# Altium schematic symbol library WRIS-RSKS.SchLib: 516 symbols (part 5 of 10)
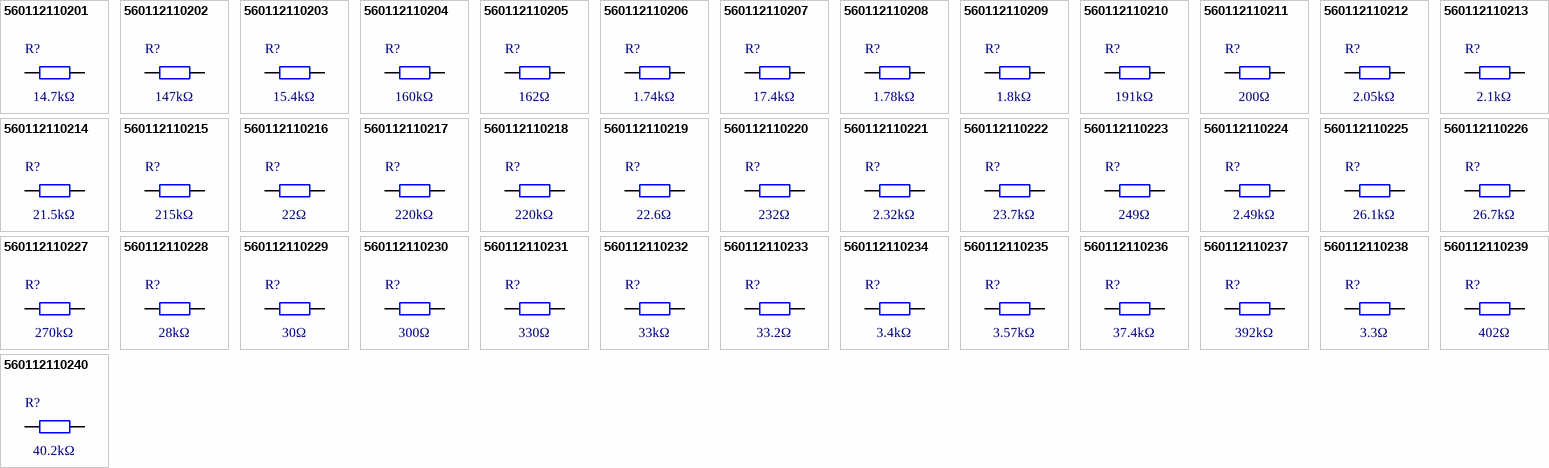
[diagram p16: symbols 560112110201 to 560112110240]

## 560112110221
designator R?, comment 2.32kΩ
WRIS-RSKS Thick Film Resistor, size 0402, 2.32kΩ, +/-1%, 100mW; Manufacturer Part Number: 560112110221; Manufacturer: Wurth Elektronik; Case/Size Code: 0402; Limiting Element Voltage: 50V; Temperature Coefficient of Resistance Min: -100ppm/°C; Temperature Coefficient of Resistance Max: 100ppm/°C; Category: Thick Film Resistors; Match Code: WRIS-RSKS; ComponentLink1Description: Website Link; ComponentLink1URL: https://www.we-online.com/redexpert/article/560112110221?ad; ComponentLink2Description: Datasheet Link; ComponentLink2URL: https://www.we-online.com/redexpert/spec/560112110221?ad; Mount: Surface Mount; Min Operating Temperature: -55°C; Max Operating Temperature: 155°C; Packaging: Tape and Reel; Length: 1mm; Width: 0.5mm; Height: 0.35mm; Rated Power: 100mW; Resistance: 2.32kΩ; Resistance Tolerance: +/-1%
footprint WRIS-RSKS_0402
pins: 1, 2

## 560112110222
designator R?, comment 23.7kΩ
WRIS-RSKS Thick Film Resistor, size 0402, 23.7kΩ, +/-1%, 100mW; Manufacturer Part Number: 560112110222; Manufacturer: Wurth Elektronik; Case/Size Code: 0402; Limiting Element Voltage: 50V; Temperature Coefficient of Resistance Min: -100ppm/°C; Temperature Coefficient of Resistance Max: 100ppm/°C; Category: Thick Film Resistors; Match Code: WRIS-RSKS; ComponentLink1Description: Website Link; ComponentLink1URL: https://www.we-online.com/redexpert/article/560112110222?ad; ComponentLink2Description: Datasheet Link; ComponentLink2URL: https://www.we-online.com/redexpert/spec/560112110222?ad; Mount: Surface Mount; Min Operating Temperature: -55°C; Max Operating Temperature: 155°C; Packaging: Tape and Reel; Length: 1mm; Width: 0.5mm; Height: 0.35mm; Rated Power: 100mW; Resistance: 23.7kΩ; Resistance Tolerance: +/-1%
footprint WRIS-RSKS_0402
pins: 1, 2

## 560112110223
designator R?, comment 249Ω
WRIS-RSKS Thick Film Resistor, size 0402, 249Ω, +/-1%, 100mW; Manufacturer Part Number: 560112110223; Manufacturer: Wurth Elektronik; Case/Size Code: 0402; Limiting Element Voltage: 50V; Temperature Coefficient of Resistance Min: -100ppm/°C; Temperature Coefficient of Resistance Max: 100ppm/°C; Category: Thick Film Resistors; Match Code: WRIS-RSKS; ComponentLink1Description: Website Link; ComponentLink1URL: https://www.we-online.com/redexpert/article/560112110223?ad; ComponentLink2Description: Datasheet Link; ComponentLink2URL: https://www.we-online.com/redexpert/spec/560112110223?ad; Mount: Surface Mount; Min Operating Temperature: -55°C; Max Operating Temperature: 155°C; Packaging: Tape and Reel; Length: 1mm; Width: 0.5mm; Height: 0.35mm; Rated Power: 100mW; Resistance: 249Ω; Resistance Tolerance: +/-1%
footprint WRIS-RSKS_0402
pins: 1, 2

## 560112110224
designator R?, comment 2.49kΩ
WRIS-RSKS Thick Film Resistor, size 0402, 2.49kΩ, +/-1%, 100mW; Manufacturer Part Number: 560112110224; Manufacturer: Wurth Elektronik; Case/Size Code: 0402; Limiting Element Voltage: 50V; Temperature Coefficient of Resistance Min: -100ppm/°C; Temperature Coefficient of Resistance Max: 100ppm/°C; Category: Thick Film Resistors; Match Code: WRIS-RSKS; ComponentLink1Description: Website Link; ComponentLink1URL: https://www.we-online.com/redexpert/article/560112110224?ad; ComponentLink2Description: Datasheet Link; ComponentLink2URL: https://www.we-online.com/redexpert/spec/560112110224?ad; Mount: Surface Mount; Min Operating Temperature: -55°C; Max Operating Temperature: 155°C; Packaging: Tape and Reel; Length: 1mm; Width: 0.5mm; Height: 0.35mm; Rated Power: 100mW; Resistance: 2.49kΩ; Resistance Tolerance: +/-1%
footprint WRIS-RSKS_0402
pins: 1, 2

## 560112110225
designator R?, comment 26.1kΩ
WRIS-RSKS Thick Film Resistor, size 0402, 26.1kΩ, +/-1%, 100mW; Manufacturer Part Number: 560112110225; Manufacturer: Wurth Elektronik; Case/Size Code: 0402; Limiting Element Voltage: 50V; Temperature Coefficient of Resistance Min: -100ppm/°C; Temperature Coefficient of Resistance Max: 100ppm/°C; Category: Thick Film Resistors; Match Code: WRIS-RSKS; ComponentLink1Description: Website Link; ComponentLink1URL: https://www.we-online.com/redexpert/article/560112110225?ad; ComponentLink2Description: Datasheet Link; ComponentLink2URL: https://www.we-online.com/redexpert/spec/560112110225?ad; Mount: Surface Mount; Min Operating Temperature: -55°C; Max Operating Temperature: 155°C; Packaging: Tape and Reel; Length: 1mm; Width: 0.5mm; Height: 0.35mm; Rated Power: 100mW; Resistance: 26.1kΩ; Resistance Tolerance: +/-1%
footprint WRIS-RSKS_0402
pins: 1, 2

## 560112110226
designator R?, comment 26.7kΩ
WRIS-RSKS Thick Film Resistor, size 0402, 26.7kΩ, +/-1%, 100mW; Manufacturer Part Number: 560112110226; Manufacturer: Wurth Elektronik; Case/Size Code: 0402; Limiting Element Voltage: 50V; Temperature Coefficient of Resistance Min: -100ppm/°C; Temperature Coefficient of Resistance Max: 100ppm/°C; Category: Thick Film Resistors; Match Code: WRIS-RSKS; ComponentLink1Description: Website Link; ComponentLink1URL: https://www.we-online.com/redexpert/article/560112110226?ad; ComponentLink2Description: Datasheet Link; ComponentLink2URL: https://www.we-online.com/redexpert/spec/560112110226?ad; Mount: Surface Mount; Min Operating Temperature: -55°C; Max Operating Temperature: 155°C; Packaging: Tape and Reel; Length: 1mm; Width: 0.5mm; Height: 0.35mm; Rated Power: 100mW; Resistance: 26.7kΩ; Resistance Tolerance: +/-1%
footprint WRIS-RSKS_0402
pins: 1, 2

## 560112110227
designator R?, comment 270kΩ
WRIS-RSKS Thick Film Resistor, size 0402, 270kΩ, +/-1%, 100mW; Manufacturer Part Number: 560112110227; Manufacturer: Wurth Elektronik; Case/Size Code: 0402; Limiting Element Voltage: 50V; Temperature Coefficient of Resistance Min: -100ppm/°C; Temperature Coefficient of Resistance Max: 100ppm/°C; Category: Thick Film Resistors; Match Code: WRIS-RSKS; ComponentLink1Description: Website Link; ComponentLink1URL: https://www.we-online.com/redexpert/article/560112110227?ad; ComponentLink2Description: Datasheet Link; ComponentLink2URL: https://www.we-online.com/redexpert/spec/560112110227?ad; Mount: Surface Mount; Min Operating Temperature: -55°C; Max Operating Temperature: 155°C; Packaging: Tape and Reel; Length: 1mm; Width: 0.5mm; Height: 0.35mm; Rated Power: 100mW; Resistance: 270kΩ; Resistance Tolerance: +/-1%
footprint WRIS-RSKS_0402
pins: 1, 2

## 560112110228
designator R?, comment 28kΩ
WRIS-RSKS Thick Film Resistor, size 0402, 28kΩ, +/-1%, 100mW; Manufacturer Part Number: 560112110228; Manufacturer: Wurth Elektronik; Case/Size Code: 0402; Limiting Element Voltage: 50V; Temperature Coefficient of Resistance Min: -100ppm/°C; Temperature Coefficient of Resistance Max: 100ppm/°C; Category: Thick Film Resistors; Match Code: WRIS-RSKS; ComponentLink1Description: Website Link; ComponentLink1URL: https://www.we-online.com/redexpert/article/560112110228?ad; ComponentLink2Description: Datasheet Link; ComponentLink2URL: https://www.we-online.com/redexpert/spec/560112110228?ad; Mount: Surface Mount; Min Operating Temperature: -55°C; Max Operating Temperature: 155°C; Packaging: Tape and Reel; Length: 1mm; Width: 0.5mm; Height: 0.35mm; Rated Power: 100mW; Resistance: 28kΩ; Resistance Tolerance: +/-1%
footprint WRIS-RSKS_0402
pins: 1, 2

## 560112110229
designator R?, comment 30Ω
WRIS-RSKS Thick Film Resistor, size 0402, 30Ω, +/-5%, 100mW; Manufacturer Part Number: 560112110229; Manufacturer: Wurth Elektronik; Case/Size Code: 0402; Limiting Element Voltage: 50V; Temperature Coefficient of Resistance Min: -100ppm/°C; Temperature Coefficient of Resistance Max: 100ppm/°C; Category: Thick Film Resistors; Match Code: WRIS-RSKS; ComponentLink1Description: Website Link; ComponentLink1URL: https://www.we-online.com/redexpert/article/560112110229?ad; ComponentLink2Description: Datasheet Link; ComponentLink2URL: https://www.we-online.com/redexpert/spec/560112110229?ad; Mount: Surface Mount; Min Operating Temperature: -55°C; Max Operating Temperature: 155°C; Packaging: Tape and Reel; Length: 1mm; Width: 0.5mm; Height: 0.35mm; Rated Power: 100mW; Resistance: 30Ω; Resistance Tolerance: +/-5%
footprint WRIS-RSKS_0402
pins: 1, 2

## 560112110230
designator R?, comment 300Ω
WRIS-RSKS Thick Film Resistor, size 0402, 300Ω, +/-5%, 100mW; Manufacturer Part Number: 560112110230; Manufacturer: Wurth Elektronik; Case/Size Code: 0402; Limiting Element Voltage: 50V; Temperature Coefficient of Resistance Min: -100ppm/°C; Temperature Coefficient of Resistance Max: 100ppm/°C; Category: Thick Film Resistors; Match Code: WRIS-RSKS; ComponentLink1Description: Website Link; ComponentLink1URL: https://www.we-online.com/redexpert/article/560112110230?ad; ComponentLink2Description: Datasheet Link; ComponentLink2URL: https://www.we-online.com/redexpert/spec/560112110230?ad; Mount: Surface Mount; Min Operating Temperature: -55°C; Max Operating Temperature: 155°C; Packaging: Tape and Reel; Length: 1mm; Width: 0.5mm; Height: 0.35mm; Rated Power: 100mW; Resistance: 300Ω; Resistance Tolerance: +/-5%
footprint WRIS-RSKS_0402
pins: 1, 2

## 560112110231
designator R?, comment 330Ω
WRIS-RSKS Thick Film Resistor, size 0402, 330Ω, +/-1%, 100mW; Manufacturer Part Number: 560112110231; Manufacturer: Wurth Elektronik; Case/Size Code: 0402; Limiting Element Voltage: 50V; Temperature Coefficient of Resistance Min: -100ppm/°C; Temperature Coefficient of Resistance Max: 100ppm/°C; Category: Thick Film Resistors; Match Code: WRIS-RSKS; ComponentLink1Description: Website Link; ComponentLink1URL: https://www.we-online.com/redexpert/article/560112110231?ad; ComponentLink2Description: Datasheet Link; ComponentLink2URL: https://www.we-online.com/redexpert/spec/560112110231?ad; Mount: Surface Mount; Min Operating Temperature: -55°C; Max Operating Temperature: 155°C; Packaging: Tape and Reel; Length: 1mm; Width: 0.5mm; Height: 0.35mm; Rated Power: 100mW; Resistance: 330Ω; Resistance Tolerance: +/-1%
footprint WRIS-RSKS_0402
pins: 1, 2

## 560112110232
designator R?, comment 33kΩ
WRIS-RSKS Thick Film Resistor, size 0402, 33kΩ, +/-5%, 100mW; Manufacturer Part Number: 560112110232; Manufacturer: Wurth Elektronik; Case/Size Code: 0402; Limiting Element Voltage: 50V; Temperature Coefficient of Resistance Min: -100ppm/°C; Temperature Coefficient of Resistance Max: 100ppm/°C; Category: Thick Film Resistors; Match Code: WRIS-RSKS; ComponentLink1Description: Website Link; ComponentLink1URL: https://www.we-online.com/redexpert/article/560112110232?ad; ComponentLink2Description: Datasheet Link; ComponentLink2URL: https://www.we-online.com/redexpert/spec/560112110232?ad; Mount: Surface Mount; Min Operating Temperature: -55°C; Max Operating Temperature: 155°C; Packaging: Tape and Reel; Length: 1mm; Width: 0.5mm; Height: 0.35mm; Rated Power: 100mW; Resistance: 33kΩ; Resistance Tolerance: +/-5%
footprint WRIS-RSKS_0402
pins: 1, 2

## 560112110233
designator R?, comment 33.2Ω
WRIS-RSKS Thick Film Resistor, size 0402, 33.2Ω, +/-1%, 100mW; Manufacturer Part Number: 560112110233; Manufacturer: Wurth Elektronik; Case/Size Code: 0402; Limiting Element Voltage: 50V; Temperature Coefficient of Resistance Min: -100ppm/°C; Temperature Coefficient of Resistance Max: 100ppm/°C; Category: Thick Film Resistors; Match Code: WRIS-RSKS; ComponentLink1Description: Website Link; ComponentLink1URL: https://www.we-online.com/redexpert/article/560112110233?ad; ComponentLink2Description: Datasheet Link; ComponentLink2URL: https://www.we-online.com/redexpert/spec/560112110233?ad; Mount: Surface Mount; Min Operating Temperature: -55°C; Max Operating Temperature: 155°C; Packaging: Tape and Reel; Length: 1mm; Width: 0.5mm; Height: 0.35mm; Rated Power: 100mW; Resistance: 33.2Ω; Resistance Tolerance: +/-1%
footprint WRIS-RSKS_0402
pins: 1, 2

## 560112110234
designator R?, comment 3.4kΩ
WRIS-RSKS Thick Film Resistor, size 0402, 3.4kΩ, +/-1%, 100mW; Manufacturer Part Number: 560112110234; Manufacturer: Wurth Elektronik; Case/Size Code: 0402; Limiting Element Voltage: 50V; Temperature Coefficient of Resistance Min: -100ppm/°C; Temperature Coefficient of Resistance Max: 100ppm/°C; Category: Thick Film Resistors; Match Code: WRIS-RSKS; ComponentLink1Description: Website Link; ComponentLink1URL: https://www.we-online.com/redexpert/article/560112110234?ad; ComponentLink2Description: Datasheet Link; ComponentLink2URL: https://www.we-online.com/redexpert/spec/560112110234?ad; Mount: Surface Mount; Min Operating Temperature: -55°C; Max Operating Temperature: 155°C; Packaging: Tape and Reel; Length: 1mm; Width: 0.5mm; Height: 0.35mm; Rated Power: 100mW; Resistance: 3.4kΩ; Resistance Tolerance: +/-1%
footprint WRIS-RSKS_0402
pins: 1, 2

## 560112110235
designator R?, comment 3.57kΩ
WRIS-RSKS Thick Film Resistor, size 0402, 3.57kΩ, +/-1%, 100mW; Manufacturer Part Number: 560112110235; Manufacturer: Wurth Elektronik; Case/Size Code: 0402; Limiting Element Voltage: 50V; Temperature Coefficient of Resistance Min: -100ppm/°C; Temperature Coefficient of Resistance Max: 100ppm/°C; Category: Thick Film Resistors; Match Code: WRIS-RSKS; ComponentLink1Description: Website Link; ComponentLink1URL: https://www.we-online.com/redexpert/article/560112110235?ad; ComponentLink2Description: Datasheet Link; ComponentLink2URL: https://www.we-online.com/redexpert/spec/560112110235?ad; Mount: Surface Mount; Min Operating Temperature: -55°C; Max Operating Temperature: 155°C; Packaging: Tape and Reel; Length: 1mm; Width: 0.5mm; Height: 0.35mm; Rated Power: 100mW; Resistance: 3.57kΩ; Resistance Tolerance: +/-1%
footprint WRIS-RSKS_0402
pins: 1, 2

## 560112110236
designator R?, comment 37.4kΩ
WRIS-RSKS Thick Film Resistor, size 0402, 37.4kΩ, +/-1%, 100mW; Manufacturer Part Number: 560112110236; Manufacturer: Wurth Elektronik; Case/Size Code: 0402; Limiting Element Voltage: 50V; Temperature Coefficient of Resistance Min: -100ppm/°C; Temperature Coefficient of Resistance Max: 100ppm/°C; Category: Thick Film Resistors; Match Code: WRIS-RSKS; ComponentLink1Description: Website Link; ComponentLink1URL: https://www.we-online.com/redexpert/article/560112110236?ad; ComponentLink2Description: Datasheet Link; ComponentLink2URL: https://www.we-online.com/redexpert/spec/560112110236?ad; Mount: Surface Mount; Min Operating Temperature: -55°C; Max Operating Temperature: 155°C; Packaging: Tape and Reel; Length: 1mm; Width: 0.5mm; Height: 0.35mm; Rated Power: 100mW; Resistance: 37.4kΩ; Resistance Tolerance: +/-1%
footprint WRIS-RSKS_0402
pins: 1, 2

## 560112110237
designator R?, comment 392kΩ
WRIS-RSKS Thick Film Resistor, size 0402, 392kΩ, +/-1%, 100mW; Manufacturer Part Number: 560112110237; Manufacturer: Wurth Elektronik; Case/Size Code: 0402; Limiting Element Voltage: 50V; Temperature Coefficient of Resistance Min: -100ppm/°C; Temperature Coefficient of Resistance Max: 100ppm/°C; Category: Thick Film Resistors; Match Code: WRIS-RSKS; ComponentLink1Description: Website Link; ComponentLink1URL: https://www.we-online.com/redexpert/article/560112110237?ad; ComponentLink2Description: Datasheet Link; ComponentLink2URL: https://www.we-online.com/redexpert/spec/560112110237?ad; Mount: Surface Mount; Min Operating Temperature: -55°C; Max Operating Temperature: 155°C; Packaging: Tape and Reel; Length: 1mm; Width: 0.5mm; Height: 0.35mm; Rated Power: 100mW; Resistance: 392kΩ; Resistance Tolerance: +/-1%
footprint WRIS-RSKS_0402
pins: 1, 2

## 560112110238
designator R?, comment 3.3Ω
WRIS-RSKS Thick Film Resistor, size 0402, 3.3Ω, +/-5%, 100mW; Manufacturer Part Number: 560112110238; Manufacturer: Wurth Elektronik; Case/Size Code: 0402; Limiting Element Voltage: 50V; Temperature Coefficient of Resistance Min: -200ppm/°C; Temperature Coefficient of Resistance Max: 400ppm/°C; Category: Thick Film Resistors; Match Code: WRIS-RSKS; ComponentLink1Description: Website Link; ComponentLink1URL: https://www.we-online.com/redexpert/article/560112110238?ad; ComponentLink2Description: Datasheet Link; ComponentLink2URL: https://www.we-online.com/redexpert/spec/560112110238?ad; Mount: Surface Mount; Min Operating Temperature: -55°C; Max Operating Temperature: 155°C; Packaging: Tape and Reel; Length: 1mm; Width: 0.5mm; Height: 0.35mm; Rated Power: 100mW; Resistance: 3.3Ω; Resistance Tolerance: +/-5%
footprint WRIS-RSKS_0402
pins: 1, 2

## 560112110239
designator R?, comment 402Ω
WRIS-RSKS Thick Film Resistor, size 0402, 402Ω, +/-1%, 100mW; Manufacturer Part Number: 560112110239; Manufacturer: Wurth Elektronik; Case/Size Code: 0402; Limiting Element Voltage: 50V; Temperature Coefficient of Resistance Min: -100ppm/°C; Temperature Coefficient of Resistance Max: 100ppm/°C; Category: Thick Film Resistors; Match Code: WRIS-RSKS; ComponentLink1Description: Website Link; ComponentLink1URL: https://www.we-online.com/redexpert/article/560112110239?ad; ComponentLink2Description: Datasheet Link; ComponentLink2URL: https://www.we-online.com/redexpert/spec/560112110239?ad; Mount: Surface Mount; Min Operating Temperature: -55°C; Max Operating Temperature: 155°C; Packaging: Tape and Reel; Length: 1mm; Width: 0.5mm; Height: 0.35mm; Rated Power: 100mW; Resistance: 402Ω; Resistance Tolerance: +/-1%
footprint WRIS-RSKS_0402
pins: 1, 2

## 560112110240
designator R?, comment 40.2kΩ
WRIS-RSKS Thick Film Resistor, size 0402, 40.2kΩ, +/-1%, 100mW; Manufacturer Part Number: 560112110240; Manufacturer: Wurth Elektronik; Case/Size Code: 0402; Limiting Element Voltage: 50V; Temperature Coefficient of Resistance Min: -100ppm/°C; Temperature Coefficient of Resistance Max: 100ppm/°C; Category: Thick Film Resistors; Match Code: WRIS-RSKS; ComponentLink1Description: Website Link; ComponentLink1URL: https://www.we-online.com/redexpert/article/560112110240?ad; ComponentLink2Description: Datasheet Link; ComponentLink2URL: https://www.we-online.com/redexpert/spec/560112110240?ad; Mount: Surface Mount; Min Operating Temperature: -55°C; Max Operating Temperature: 155°C; Packaging: Tape and Reel; Length: 1mm; Width: 0.5mm; Height: 0.35mm; Rated Power: 100mW; Resistance: 40.2kΩ; Resistance Tolerance: +/-1%
footprint WRIS-RSKS_0402
pins: 1, 2

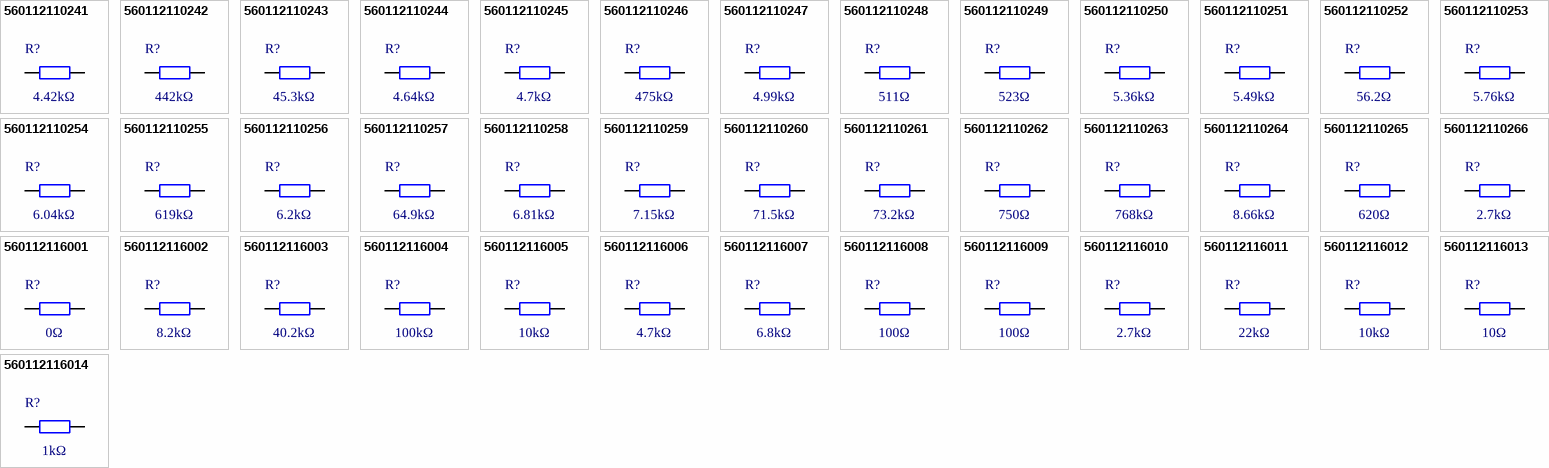
[diagram p6: symbols 560112110241 to 560112116014]

## 560112110241
designator R?, comment 4.42kΩ
WRIS-RSKS Thick Film Resistor, size 0402, 4.42kΩ, +/-1%, 100mW; Manufacturer Part Number: 560112110241; Manufacturer: Wurth Elektronik; Case/Size Code: 0402; Limiting Element Voltage: 50V; Temperature Coefficient of Resistance Min: -100ppm/°C; Temperature Coefficient of Resistance Max: 100ppm/°C; Category: Thick Film Resistors; Match Code: WRIS-RSKS; ComponentLink1Description: Website Link; ComponentLink1URL: https://www.we-online.com/redexpert/article/560112110241?ad; ComponentLink2Description: Datasheet Link; ComponentLink2URL: https://www.we-online.com/redexpert/spec/560112110241?ad; Mount: Surface Mount; Min Operating Temperature: -55°C; Max Operating Temperature: 155°C; Packaging: Tape and Reel; Length: 1mm; Width: 0.5mm; Height: 0.35mm; Rated Power: 100mW; Resistance: 4.42kΩ; Resistance Tolerance: +/-1%
footprint WRIS-RSKS_0402
pins: 1, 2

## 560112110242
designator R?, comment 442kΩ
WRIS-RSKS Thick Film Resistor, size 0402, 442kΩ, +/-1%, 100mW; Manufacturer Part Number: 560112110242; Manufacturer: Wurth Elektronik; Case/Size Code: 0402; Limiting Element Voltage: 50V; Temperature Coefficient of Resistance Min: -100ppm/°C; Temperature Coefficient of Resistance Max: 100ppm/°C; Category: Thick Film Resistors; Match Code: WRIS-RSKS; ComponentLink1Description: Website Link; ComponentLink1URL: https://www.we-online.com/redexpert/article/560112110242?ad; ComponentLink2Description: Datasheet Link; ComponentLink2URL: https://www.we-online.com/redexpert/spec/560112110242?ad; Mount: Surface Mount; Min Operating Temperature: -55°C; Max Operating Temperature: 155°C; Packaging: Tape and Reel; Length: 1mm; Width: 0.5mm; Height: 0.35mm; Rated Power: 100mW; Resistance: 442kΩ; Resistance Tolerance: +/-1%
footprint WRIS-RSKS_0402
pins: 1, 2

## 560112110243
designator R?, comment 45.3kΩ
WRIS-RSKS Thick Film Resistor, size 0402, 45.3kΩ, +/-1%, 100mW; Manufacturer Part Number: 560112110243; Manufacturer: Wurth Elektronik; Case/Size Code: 0402; Limiting Element Voltage: 50V; Temperature Coefficient of Resistance Min: -100ppm/°C; Temperature Coefficient of Resistance Max: 100ppm/°C; Category: Thick Film Resistors; Match Code: WRIS-RSKS; ComponentLink1Description: Website Link; ComponentLink1URL: https://www.we-online.com/redexpert/article/560112110243?ad; ComponentLink2Description: Datasheet Link; ComponentLink2URL: https://www.we-online.com/redexpert/spec/560112110243?ad; Mount: Surface Mount; Min Operating Temperature: -55°C; Max Operating Temperature: 155°C; Packaging: Tape and Reel; Length: 1mm; Width: 0.5mm; Height: 0.35mm; Rated Power: 100mW; Resistance: 45.3kΩ; Resistance Tolerance: +/-1%
footprint WRIS-RSKS_0402
pins: 1, 2

## 560112110244
designator R?, comment 4.64kΩ
WRIS-RSKS Thick Film Resistor, size 0402, 4.64kΩ, +/-1%, 100mW; Manufacturer Part Number: 560112110244; Manufacturer: Wurth Elektronik; Case/Size Code: 0402; Limiting Element Voltage: 50V; Temperature Coefficient of Resistance Min: -100ppm/°C; Temperature Coefficient of Resistance Max: 100ppm/°C; Category: Thick Film Resistors; Match Code: WRIS-RSKS; ComponentLink1Description: Website Link; ComponentLink1URL: https://www.we-online.com/redexpert/article/560112110244?ad; ComponentLink2Description: Datasheet Link; ComponentLink2URL: https://www.we-online.com/redexpert/spec/560112110244?ad; Mount: Surface Mount; Min Operating Temperature: -55°C; Max Operating Temperature: 155°C; Packaging: Tape and Reel; Length: 1mm; Width: 0.5mm; Height: 0.35mm; Rated Power: 100mW; Resistance: 4.64kΩ; Resistance Tolerance: +/-1%
footprint WRIS-RSKS_0402
pins: 1, 2

## 560112110245
designator R?, comment 4.7kΩ
WRIS-RSKS Thick Film Resistor, size 0402, 4.7kΩ, +/-1%, 100mW; Manufacturer Part Number: 560112110245; Manufacturer: Wurth Elektronik; Case/Size Code: 0402; Limiting Element Voltage: 50V; Temperature Coefficient of Resistance Min: -100ppm/°C; Temperature Coefficient of Resistance Max: 100ppm/°C; Category: Thick Film Resistors; Match Code: WRIS-RSKS; ComponentLink1Description: Website Link; ComponentLink1URL: https://www.we-online.com/redexpert/article/560112110245?ad; ComponentLink2Description: Datasheet Link; ComponentLink2URL: https://www.we-online.com/redexpert/spec/560112110245?ad; Mount: Surface Mount; Min Operating Temperature: -55°C; Max Operating Temperature: 155°C; Packaging: Tape and Reel; Length: 1mm; Width: 0.5mm; Height: 0.35mm; Rated Power: 100mW; Resistance: 4.7kΩ; Resistance Tolerance: +/-1%
footprint WRIS-RSKS_0402
pins: 1, 2

## 560112110246
designator R?, comment 475kΩ
WRIS-RSKS Thick Film Resistor, size 0402, 475kΩ, +/-1%, 100mW; Manufacturer Part Number: 560112110246; Manufacturer: Wurth Elektronik; Case/Size Code: 0402; Limiting Element Voltage: 50V; Temperature Coefficient of Resistance Min: -100ppm/°C; Temperature Coefficient of Resistance Max: 100ppm/°C; Category: Thick Film Resistors; Match Code: WRIS-RSKS; ComponentLink1Description: Website Link; ComponentLink1URL: https://www.we-online.com/redexpert/article/560112110246?ad; ComponentLink2Description: Datasheet Link; ComponentLink2URL: https://www.we-online.com/redexpert/spec/560112110246?ad; Mount: Surface Mount; Min Operating Temperature: -55°C; Max Operating Temperature: 155°C; Packaging: Tape and Reel; Length: 1mm; Width: 0.5mm; Height: 0.35mm; Rated Power: 100mW; Resistance: 475kΩ; Resistance Tolerance: +/-1%
footprint WRIS-RSKS_0402
pins: 1, 2

## 560112110247
designator R?, comment 4.99kΩ
WRIS-RSKS Thick Film Resistor, size 0402, 4.99kΩ, +/-1%, 100mW; Manufacturer Part Number: 560112110247; Manufacturer: Wurth Elektronik; Case/Size Code: 0402; Limiting Element Voltage: 50V; Temperature Coefficient of Resistance Min: -100ppm/°C; Temperature Coefficient of Resistance Max: 100ppm/°C; Category: Thick Film Resistors; Match Code: WRIS-RSKS; ComponentLink1Description: Website Link; ComponentLink1URL: https://www.we-online.com/redexpert/article/560112110247?ad; ComponentLink2Description: Datasheet Link; ComponentLink2URL: https://www.we-online.com/redexpert/spec/560112110247?ad; Mount: Surface Mount; Min Operating Temperature: -55°C; Max Operating Temperature: 155°C; Packaging: Tape and Reel; Length: 1mm; Width: 0.5mm; Height: 0.35mm; Rated Power: 100mW; Resistance: 4.99kΩ; Resistance Tolerance: +/-1%
footprint WRIS-RSKS_0402
pins: 1, 2

## 560112110248
designator R?, comment 511Ω
WRIS-RSKS Thick Film Resistor, size 0402, 511Ω, +/-1%, 100mW; Manufacturer Part Number: 560112110248; Manufacturer: Wurth Elektronik; Case/Size Code: 0402; Limiting Element Voltage: 50V; Temperature Coefficient of Resistance Min: -100ppm/°C; Temperature Coefficient of Resistance Max: 100ppm/°C; Category: Thick Film Resistors; Match Code: WRIS-RSKS; ComponentLink1Description: Website Link; ComponentLink1URL: https://www.we-online.com/redexpert/article/560112110248?ad; ComponentLink2Description: Datasheet Link; ComponentLink2URL: https://www.we-online.com/redexpert/spec/560112110248?ad; Mount: Surface Mount; Min Operating Temperature: -55°C; Max Operating Temperature: 155°C; Packaging: Tape and Reel; Length: 1mm; Width: 0.5mm; Height: 0.35mm; Rated Power: 100mW; Resistance: 511Ω; Resistance Tolerance: +/-1%
footprint WRIS-RSKS_0402
pins: 1, 2

## 560112110249
designator R?, comment 523Ω
WRIS-RSKS Thick Film Resistor, size 0402, 523Ω, +/-1%, 100mW; Manufacturer Part Number: 560112110249; Manufacturer: Wurth Elektronik; Case/Size Code: 0402; Limiting Element Voltage: 50V; Temperature Coefficient of Resistance Min: -100ppm/°C; Temperature Coefficient of Resistance Max: 100ppm/°C; Category: Thick Film Resistors; Match Code: WRIS-RSKS; ComponentLink1Description: Website Link; ComponentLink1URL: https://www.we-online.com/redexpert/article/560112110249?ad; ComponentLink2Description: Datasheet Link; ComponentLink2URL: https://www.we-online.com/redexpert/spec/560112110249?ad; Mount: Surface Mount; Min Operating Temperature: -55°C; Max Operating Temperature: 155°C; Packaging: Tape and Reel; Length: 1mm; Width: 0.5mm; Height: 0.35mm; Rated Power: 100mW; Resistance: 523Ω; Resistance Tolerance: +/-1%
footprint WRIS-RSKS_0402
pins: 1, 2

## 560112110250
designator R?, comment 5.36kΩ
WRIS-RSKS Thick Film Resistor, size 0402, 5.36kΩ, +/-1%, 100mW; Manufacturer Part Number: 560112110250; Manufacturer: Wurth Elektronik; Case/Size Code: 0402; Limiting Element Voltage: 50V; Temperature Coefficient of Resistance Min: -100ppm/°C; Temperature Coefficient of Resistance Max: 100ppm/°C; Category: Thick Film Resistors; Match Code: WRIS-RSKS; ComponentLink1Description: Website Link; ComponentLink1URL: https://www.we-online.com/redexpert/article/560112110250?ad; ComponentLink2Description: Datasheet Link; ComponentLink2URL: https://www.we-online.com/redexpert/spec/560112110250?ad; Mount: Surface Mount; Min Operating Temperature: -55°C; Max Operating Temperature: 155°C; Packaging: Tape and Reel; Length: 1mm; Width: 0.5mm; Height: 0.35mm; Rated Power: 100mW; Resistance: 5.36kΩ; Resistance Tolerance: +/-1%
footprint WRIS-RSKS_0402
pins: 1, 2

## 560112110251
designator R?, comment 5.49kΩ
WRIS-RSKS Thick Film Resistor, size 0402, 5.49kΩ, +/-1%, 100mW; Manufacturer Part Number: 560112110251; Manufacturer: Wurth Elektronik; Case/Size Code: 0402; Limiting Element Voltage: 50V; Temperature Coefficient of Resistance Min: -100ppm/°C; Temperature Coefficient of Resistance Max: 100ppm/°C; Category: Thick Film Resistors; Match Code: WRIS-RSKS; ComponentLink1Description: Website Link; ComponentLink1URL: https://www.we-online.com/redexpert/article/560112110251?ad; ComponentLink2Description: Datasheet Link; ComponentLink2URL: https://www.we-online.com/redexpert/spec/560112110251?ad; Mount: Surface Mount; Min Operating Temperature: -55°C; Max Operating Temperature: 155°C; Packaging: Tape and Reel; Length: 1mm; Width: 0.5mm; Height: 0.35mm; Rated Power: 100mW; Resistance: 5.49kΩ; Resistance Tolerance: +/-1%
footprint WRIS-RSKS_0402
pins: 1, 2

## 560112110252
designator R?, comment 56.2Ω
WRIS-RSKS Thick Film Resistor, size 0402, 56.2Ω, +/-1%, 100mW; Manufacturer Part Number: 560112110252; Manufacturer: Wurth Elektronik; Case/Size Code: 0402; Limiting Element Voltage: 50V; Temperature Coefficient of Resistance Min: -100ppm/°C; Temperature Coefficient of Resistance Max: 100ppm/°C; Category: Thick Film Resistors; Match Code: WRIS-RSKS; ComponentLink1Description: Website Link; ComponentLink1URL: https://www.we-online.com/redexpert/article/560112110252?ad; ComponentLink2Description: Datasheet Link; ComponentLink2URL: https://www.we-online.com/redexpert/spec/560112110252?ad; Mount: Surface Mount; Min Operating Temperature: -55°C; Max Operating Temperature: 155°C; Packaging: Tape and Reel; Length: 1mm; Width: 0.5mm; Height: 0.35mm; Rated Power: 100mW; Resistance: 56.2Ω; Resistance Tolerance: +/-1%
footprint WRIS-RSKS_0402
pins: 1, 2

## 560112110253
designator R?, comment 5.76kΩ
WRIS-RSKS Thick Film Resistor, size 0402, 5.76kΩ, +/-1%, 100mW; Manufacturer Part Number: 560112110253; Manufacturer: Wurth Elektronik; Case/Size Code: 0402; Limiting Element Voltage: 50V; Temperature Coefficient of Resistance Min: -100ppm/°C; Temperature Coefficient of Resistance Max: 100ppm/°C; Category: Thick Film Resistors; Match Code: WRIS-RSKS; ComponentLink1Description: Website Link; ComponentLink1URL: https://www.we-online.com/redexpert/article/560112110253?ad; ComponentLink2Description: Datasheet Link; ComponentLink2URL: https://www.we-online.com/redexpert/spec/560112110253?ad; Mount: Surface Mount; Min Operating Temperature: -55°C; Max Operating Temperature: 155°C; Packaging: Tape and Reel; Length: 1mm; Width: 0.5mm; Height: 0.35mm; Rated Power: 100mW; Resistance: 5.76kΩ; Resistance Tolerance: +/-1%
footprint WRIS-RSKS_0402
pins: 1, 2

## 560112110254
designator R?, comment 6.04kΩ
WRIS-RSKS Thick Film Resistor, size 0402, 6.04kΩ, +/-1%, 100mW; Manufacturer Part Number: 560112110254; Manufacturer: Wurth Elektronik; Case/Size Code: 0402; Limiting Element Voltage: 50V; Temperature Coefficient of Resistance Min: -100ppm/°C; Temperature Coefficient of Resistance Max: 100ppm/°C; Category: Thick Film Resistors; Match Code: WRIS-RSKS; ComponentLink1Description: Website Link; ComponentLink1URL: https://www.we-online.com/redexpert/article/560112110254?ad; ComponentLink2Description: Datasheet Link; ComponentLink2URL: https://www.we-online.com/redexpert/spec/560112110254?ad; Mount: Surface Mount; Min Operating Temperature: -55°C; Max Operating Temperature: 155°C; Packaging: Tape and Reel; Length: 1mm; Width: 0.5mm; Height: 0.35mm; Rated Power: 100mW; Resistance: 6.04kΩ; Resistance Tolerance: +/-1%
footprint WRIS-RSKS_0402
pins: 1, 2

## 560112110255
designator R?, comment 619kΩ
WRIS-RSKS Thick Film Resistor, size 0402, 619kΩ, +/-1%, 100mW; Manufacturer Part Number: 560112110255; Manufacturer: Wurth Elektronik; Case/Size Code: 0402; Limiting Element Voltage: 50V; Temperature Coefficient of Resistance Min: -100ppm/°C; Temperature Coefficient of Resistance Max: 100ppm/°C; Category: Thick Film Resistors; Match Code: WRIS-RSKS; ComponentLink1Description: Website Link; ComponentLink1URL: https://www.we-online.com/redexpert/article/560112110255?ad; ComponentLink2Description: Datasheet Link; ComponentLink2URL: https://www.we-online.com/redexpert/spec/560112110255?ad; Mount: Surface Mount; Min Operating Temperature: -55°C; Max Operating Temperature: 155°C; Packaging: Tape and Reel; Length: 1mm; Width: 0.5mm; Height: 0.35mm; Rated Power: 100mW; Resistance: 619kΩ; Resistance Tolerance: +/-1%
footprint WRIS-RSKS_0402
pins: 1, 2

## 560112110256
designator R?, comment 6.2kΩ
WRIS-RSKS Thick Film Resistor, size 0402, 6.2kΩ, +/-1%, 100mW; Manufacturer Part Number: 560112110256; Manufacturer: Wurth Elektronik; Case/Size Code: 0402; Limiting Element Voltage: 50V; Temperature Coefficient of Resistance Min: -100ppm/°C; Temperature Coefficient of Resistance Max: 100ppm/°C; Category: Thick Film Resistors; Match Code: WRIS-RSKS; ComponentLink1Description: Website Link; ComponentLink1URL: https://www.we-online.com/redexpert/article/560112110256?ad; ComponentLink2Description: Datasheet Link; ComponentLink2URL: https://www.we-online.com/redexpert/spec/560112110256?ad; Mount: Surface Mount; Min Operating Temperature: -55°C; Max Operating Temperature: 155°C; Packaging: Tape and Reel; Length: 1mm; Width: 0.5mm; Height: 0.35mm; Rated Power: 100mW; Resistance: 6.2kΩ; Resistance Tolerance: +/-1%
footprint WRIS-RSKS_0402
pins: 1, 2

## 560112110257
designator R?, comment 64.9kΩ
WRIS-RSKS Thick Film Resistor, size 0402, 64.9kΩ, +/-1%, 100mW; Manufacturer Part Number: 560112110257; Manufacturer: Wurth Elektronik; Case/Size Code: 0402; Limiting Element Voltage: 50V; Temperature Coefficient of Resistance Min: -100ppm/°C; Temperature Coefficient of Resistance Max: 100ppm/°C; Category: Thick Film Resistors; Match Code: WRIS-RSKS; ComponentLink1Description: Website Link; ComponentLink1URL: https://www.we-online.com/redexpert/article/560112110257?ad; ComponentLink2Description: Datasheet Link; ComponentLink2URL: https://www.we-online.com/redexpert/spec/560112110257?ad; Mount: Surface Mount; Min Operating Temperature: -55°C; Max Operating Temperature: 155°C; Packaging: Tape and Reel; Length: 1mm; Width: 0.5mm; Height: 0.35mm; Rated Power: 100mW; Resistance: 64.9kΩ; Resistance Tolerance: +/-1%
footprint WRIS-RSKS_0402
pins: 1, 2

## 560112110258
designator R?, comment 6.81kΩ
WRIS-RSKS Thick Film Resistor, size 0402, 6.81kΩ, +/-1%, 100mW; Manufacturer Part Number: 560112110258; Manufacturer: Wurth Elektronik; Case/Size Code: 0402; Limiting Element Voltage: 50V; Temperature Coefficient of Resistance Min: -100ppm/°C; Temperature Coefficient of Resistance Max: 100ppm/°C; Category: Thick Film Resistors; Match Code: WRIS-RSKS; ComponentLink1Description: Website Link; ComponentLink1URL: https://www.we-online.com/redexpert/article/560112110258?ad; ComponentLink2Description: Datasheet Link; ComponentLink2URL: https://www.we-online.com/redexpert/spec/560112110258?ad; Mount: Surface Mount; Min Operating Temperature: -55°C; Max Operating Temperature: 155°C; Packaging: Tape and Reel; Length: 1mm; Width: 0.5mm; Height: 0.35mm; Rated Power: 100mW; Resistance: 6.81kΩ; Resistance Tolerance: +/-1%
footprint WRIS-RSKS_0402
pins: 1, 2

## 560112110259
designator R?, comment 7.15kΩ
WRIS-RSKS Thick Film Resistor, size 0402, 7.15kΩ, +/-1%, 100mW; Manufacturer Part Number: 560112110259; Manufacturer: Wurth Elektronik; Case/Size Code: 0402; Limiting Element Voltage: 50V; Temperature Coefficient of Resistance Min: -100ppm/°C; Temperature Coefficient of Resistance Max: 100ppm/°C; Category: Thick Film Resistors; Match Code: WRIS-RSKS; ComponentLink1Description: Website Link; ComponentLink1URL: https://www.we-online.com/redexpert/article/560112110259?ad; ComponentLink2Description: Datasheet Link; ComponentLink2URL: https://www.we-online.com/redexpert/spec/560112110259?ad; Mount: Surface Mount; Min Operating Temperature: -55°C; Max Operating Temperature: 155°C; Packaging: Tape and Reel; Length: 1mm; Width: 0.5mm; Height: 0.35mm; Rated Power: 100mW; Resistance: 7.15kΩ; Resistance Tolerance: +/-1%
footprint WRIS-RSKS_0402
pins: 1, 2

## 560112110260
designator R?, comment 71.5kΩ
WRIS-RSKS Thick Film Resistor, size 0402, 71.5kΩ, +/-1%, 100mW; Manufacturer Part Number: 560112110260; Manufacturer: Wurth Elektronik; Case/Size Code: 0402; Limiting Element Voltage: 50V; Temperature Coefficient of Resistance Min: -100ppm/°C; Temperature Coefficient of Resistance Max: 100ppm/°C; Category: Thick Film Resistors; Match Code: WRIS-RSKS; ComponentLink1Description: Website Link; ComponentLink1URL: https://www.we-online.com/redexpert/article/560112110260?ad; ComponentLink2Description: Datasheet Link; ComponentLink2URL: https://www.we-online.com/redexpert/spec/560112110260?ad; Mount: Surface Mount; Min Operating Temperature: -55°C; Max Operating Temperature: 155°C; Packaging: Tape and Reel; Length: 1mm; Width: 0.5mm; Height: 0.35mm; Rated Power: 100mW; Resistance: 71.5kΩ; Resistance Tolerance: +/-1%
footprint WRIS-RSKS_0402
pins: 1, 2

## 560112110261
designator R?, comment 73.2kΩ
WRIS-RSKS Thick Film Resistor, size 0402, 73.2kΩ, +/-1%, 100mW; Manufacturer Part Number: 560112110261; Manufacturer: Wurth Elektronik; Case/Size Code: 0402; Limiting Element Voltage: 50V; Temperature Coefficient of Resistance Min: -100ppm/°C; Temperature Coefficient of Resistance Max: 100ppm/°C; Category: Thick Film Resistors; Match Code: WRIS-RSKS; ComponentLink1Description: Website Link; ComponentLink1URL: https://www.we-online.com/redexpert/article/560112110261?ad; ComponentLink2Description: Datasheet Link; ComponentLink2URL: https://www.we-online.com/redexpert/spec/560112110261?ad; Mount: Surface Mount; Min Operating Temperature: -55°C; Max Operating Temperature: 155°C; Packaging: Tape and Reel; Length: 1mm; Width: 0.5mm; Height: 0.35mm; Rated Power: 100mW; Resistance: 73.2kΩ; Resistance Tolerance: +/-1%
footprint WRIS-RSKS_0402
pins: 1, 2

## 560112110262
designator R?, comment 750Ω
WRIS-RSKS Thick Film Resistor, size 0402, 750Ω, +/-1%, 100mW; Manufacturer Part Number: 560112110262; Manufacturer: Wurth Elektronik; Case/Size Code: 0402; Limiting Element Voltage: 50V; Temperature Coefficient of Resistance Min: -100ppm/°C; Temperature Coefficient of Resistance Max: 100ppm/°C; Category: Thick Film Resistors; Match Code: WRIS-RSKS; ComponentLink1Description: Website Link; ComponentLink1URL: https://www.we-online.com/redexpert/article/560112110262?ad; ComponentLink2Description: Datasheet Link; ComponentLink2URL: https://www.we-online.com/redexpert/spec/560112110262?ad; Mount: Surface Mount; Min Operating Temperature: -55°C; Max Operating Temperature: 155°C; Packaging: Tape and Reel; Length: 1mm; Width: 0.5mm; Height: 0.35mm; Rated Power: 100mW; Resistance: 750Ω; Resistance Tolerance: +/-1%
footprint WRIS-RSKS_0402
pins: 1, 2

## 560112110263
designator R?, comment 768kΩ
WRIS-RSKS Thick Film Resistor, size 0402, 768kΩ, +/-1%, 100mW; Manufacturer Part Number: 560112110263; Manufacturer: Wurth Elektronik; Case/Size Code: 0402; Limiting Element Voltage: 50V; Temperature Coefficient of Resistance Min: -100ppm/°C; Temperature Coefficient of Resistance Max: 100ppm/°C; Category: Thick Film Resistors; Match Code: WRIS-RSKS; ComponentLink1Description: Website Link; ComponentLink1URL: https://www.we-online.com/redexpert/article/560112110263?ad; ComponentLink2Description: Datasheet Link; ComponentLink2URL: https://www.we-online.com/redexpert/spec/560112110263?ad; Mount: Surface Mount; Min Operating Temperature: -55°C; Max Operating Temperature: 155°C; Packaging: Tape and Reel; Length: 1mm; Width: 0.5mm; Height: 0.35mm; Rated Power: 100mW; Resistance: 768kΩ; Resistance Tolerance: +/-1%
footprint WRIS-RSKS_0402
pins: 1, 2

## 560112110264
designator R?, comment 8.66kΩ
WRIS-RSKS Thick Film Resistor, size 0402, 8.66kΩ, +/-1%, 100mW; Manufacturer Part Number: 560112110264; Manufacturer: Wurth Elektronik; Case/Size Code: 0402; Limiting Element Voltage: 50V; Temperature Coefficient of Resistance Min: -100ppm/°C; Temperature Coefficient of Resistance Max: 100ppm/°C; Category: Thick Film Resistors; Match Code: WRIS-RSKS; ComponentLink1Description: Website Link; ComponentLink1URL: https://www.we-online.com/redexpert/article/560112110264?ad; ComponentLink2Description: Datasheet Link; ComponentLink2URL: https://www.we-online.com/redexpert/spec/560112110264?ad; Mount: Surface Mount; Min Operating Temperature: -55°C; Max Operating Temperature: 155°C; Packaging: Tape and Reel; Length: 1mm; Width: 0.5mm; Height: 0.35mm; Rated Power: 100mW; Resistance: 8.66kΩ; Resistance Tolerance: +/-1%
footprint WRIS-RSKS_0402
pins: 1, 2

## 560112110265
designator R?, comment 620Ω
WRIS-RSKS Thick Film Resistor, size 0402, 620Ω, +/-1%, 100mW; Manufacturer Part Number: 560112110265; Manufacturer: Wurth Elektronik; Case/Size Code: 0402; Limiting Element Voltage: 50V; Temperature Coefficient of Resistance Min: -100ppm/°C; Temperature Coefficient of Resistance Max: 100ppm/°C; Category: Thick Film Resistors; Match Code: WRIS-RSKS; ComponentLink1Description: Website Link; ComponentLink1URL: https://www.we-online.com/redexpert/article/560112110265?ad; ComponentLink2Description: Datasheet Link; ComponentLink2URL: https://www.we-online.com/redexpert/spec/560112110265?ad; Mount: Surface Mount; Min Operating Temperature: -55°C; Max Operating Temperature: 155°C; Packaging: Tape and Reel; Length: 1mm; Width: 0.5mm; Height: 0.35mm; Rated Power: 100mW; Resistance: 620Ω; Resistance Tolerance: +/-1%
footprint WRIS-RSKS_0402
pins: 1, 2

## 560112110266
designator R?, comment 2.7kΩ
WRIS-RSKS Thick Film Resistor, size 0402, 2.7kΩ, +/-1%, 100mW; Manufacturer Part Number: 560112110266; Manufacturer: Wurth Elektronik; Case/Size Code: 0402; Limiting Element Voltage: 50V; Temperature Coefficient of Resistance Min: -100ppm/°C; Temperature Coefficient of Resistance Max: 100ppm/°C; Category: Thick Film Resistors; Match Code: WRIS-RSKS; ComponentLink1Description: Website Link; ComponentLink1URL: https://www.we-online.com/redexpert/article/560112110266?ad; ComponentLink2Description: Datasheet Link; ComponentLink2URL: https://www.we-online.com/redexpert/spec/560112110266?ad; Mount: Surface Mount; Min Operating Temperature: -55°C; Max Operating Temperature: 155°C; Packaging: Tape and Reel; Length: 1mm; Width: 0.5mm; Height: 0.35mm; Rated Power: 100mW; Resistance: 2.7kΩ; Resistance Tolerance: +/-1%
footprint WRIS-RSKS_0402
pins: 1, 2

## 560112116001
designator R?, comment 0Ω
WRIS-RSKS Thick Film Resistor, size 0603, 0Ω, +0.05Ω/-0Ω, 100mW; Manufacturer Part Number: 560112116001; Manufacturer: Wurth Elektronik; Case/Size Code: 0603; Limiting Element Voltage: 0V; Temperature Coefficient of Resistance Min: 0ppm/°C; Category: Thick Film Resistors; Match Code: WRIS-RSKS; ComponentLink1Description: Website Link; ComponentLink1URL: https://www.we-online.com/redexpert/article/560112116001?ad; ComponentLink2Description: Datasheet Link; ComponentLink2URL: https://www.we-online.com/redexpert/spec/560112116001?ad; Mount: Surface Mount; Min Operating Temperature: -55°C; Max Operating Temperature: 155°C; Packaging: Tape and Reel; Length: 1.6mm; Width: 0.8mm; Height: 0.45mm; Rated Power: 100mW; Resistance: 0Ω; Resistance Tolerance: +0.05Ω/-0Ω; Temperature Coefficient of Resistance Max: 0ppm/°C
footprint WRIS-RSKS_0603_Reflow
footprint WRIS-RSKS_0603_Wave
pins: 1, 2

## 560112116002
designator R?, comment 8.2kΩ
WRIS-RSKS Thick Film Resistor, size 0603, 8.2kΩ, +/-1%, 100mW; Manufacturer Part Number: 560112116002; Manufacturer: Wurth Elektronik; Case/Size Code: 0603; Limiting Element Voltage: 75V; Temperature Coefficient of Resistance Min: -100ppm/°C; Temperature Coefficient of Resistance Max: 100ppm/°C; Category: Thick Film Resistors; Match Code: WRIS-RSKS; ComponentLink1Description: Website Link; ComponentLink1URL: https://www.we-online.com/redexpert/article/560112116002?ad; ComponentLink2Description: Datasheet Link; ComponentLink2URL: https://www.we-online.com/redexpert/spec/560112116002?ad; Mount: Surface Mount; Min Operating Temperature: -55°C; Max Operating Temperature: 155°C; Packaging: Tape and Reel; Length: 1.6mm; Width: 0.8mm; Height: 0.45mm; Rated Power: 100mW; Resistance: 8.2kΩ; Resistance Tolerance: +/-1%
footprint WRIS-RSKS_0603_Reflow
footprint WRIS-RSKS_0603_Wave
pins: 1, 2

## 560112116003
designator R?, comment 40.2kΩ
WRIS-RSKS Thick Film Resistor, size 0603, 40.2kΩ, +/-1%, 100mW; Manufacturer Part Number: 560112116003; Manufacturer: Wurth Elektronik; Case/Size Code: 0603; Limiting Element Voltage: 75V; Temperature Coefficient of Resistance Min: -100ppm/°C; Temperature Coefficient of Resistance Max: 100ppm/°C; Category: Thick Film Resistors; Match Code: WRIS-RSKS; ComponentLink1Description: Website Link; ComponentLink1URL: https://www.we-online.com/redexpert/article/560112116003?ad; ComponentLink2Description: Datasheet Link; ComponentLink2URL: https://www.we-online.com/redexpert/spec/560112116003?ad; Mount: Surface Mount; Min Operating Temperature: -55°C; Max Operating Temperature: 155°C; Packaging: Tape and Reel; Length: 1.6mm; Width: 0.8mm; Height: 0.45mm; Rated Power: 100mW; Resistance: 40.2kΩ; Resistance Tolerance: +/-1%
footprint WRIS-RSKS_0603_Reflow
footprint WRIS-RSKS_0603_Wave
pins: 1, 2

## 560112116004
designator R?, comment 100kΩ
WRIS-RSKS Thick Film Resistor, size 0603, 100kΩ, +/-1%, 100mW; Manufacturer Part Number: 560112116004; Manufacturer: Wurth Elektronik; Case/Size Code: 0603; Limiting Element Voltage: 75V; Temperature Coefficient of Resistance Min: -100ppm/°C; Temperature Coefficient of Resistance Max: 100ppm/°C; Category: Thick Film Resistors; Match Code: WRIS-RSKS; ComponentLink1Description: Website Link; ComponentLink1URL: https://www.we-online.com/redexpert/article/560112116004?ad; ComponentLink2Description: Datasheet Link; ComponentLink2URL: https://www.we-online.com/redexpert/spec/560112116004?ad; Mount: Surface Mount; Min Operating Temperature: -55°C; Max Operating Temperature: 155°C; Packaging: Tape and Reel; Length: 1.6mm; Width: 0.8mm; Height: 0.45mm; Rated Power: 100mW; Resistance: 100kΩ; Resistance Tolerance: +/-1%
footprint WRIS-RSKS_0603_Reflow
footprint WRIS-RSKS_0603_Wave
pins: 1, 2

## 560112116005
designator R?, comment 10kΩ
WRIS-RSKS Thick Film Resistor, size 0603, 10kΩ, +/-1%, 100mW; Manufacturer Part Number: 560112116005; Manufacturer: Wurth Elektronik; Case/Size Code: 0603; Limiting Element Voltage: 75V; Temperature Coefficient of Resistance Min: -100ppm/°C; Temperature Coefficient of Resistance Max: 100ppm/°C; Category: Thick Film Resistors; Match Code: WRIS-RSKS; ComponentLink1Description: Website Link; ComponentLink1URL: https://www.we-online.com/redexpert/article/560112116005?ad; ComponentLink2Description: Datasheet Link; ComponentLink2URL: https://www.we-online.com/redexpert/spec/560112116005?ad; Mount: Surface Mount; Min Operating Temperature: -55°C; Max Operating Temperature: 155°C; Packaging: Tape and Reel; Length: 1.6mm; Width: 0.8mm; Height: 0.45mm; Rated Power: 100mW; Resistance: 10kΩ; Resistance Tolerance: +/-1%
footprint WRIS-RSKS_0603_Reflow
footprint WRIS-RSKS_0603_Wave
pins: 1, 2

## 560112116006
designator R?, comment 4.7kΩ
WRIS-RSKS Thick Film Resistor, size 0603, 4.7kΩ, +/-1%, 100mW; Manufacturer Part Number: 560112116006; Manufacturer: Wurth Elektronik; Case/Size Code: 0603; Limiting Element Voltage: 75V; Temperature Coefficient of Resistance Min: -100ppm/°C; Temperature Coefficient of Resistance Max: 100ppm/°C; Category: Thick Film Resistors; Match Code: WRIS-RSKS; ComponentLink1Description: Website Link; ComponentLink1URL: https://www.we-online.com/redexpert/article/560112116006?ad; ComponentLink2Description: Datasheet Link; ComponentLink2URL: https://www.we-online.com/redexpert/spec/560112116006?ad; Mount: Surface Mount; Min Operating Temperature: -55°C; Max Operating Temperature: 155°C; Packaging: Tape and Reel; Length: 1.6mm; Width: 0.8mm; Height: 0.45mm; Rated Power: 100mW; Resistance: 4.7kΩ; Resistance Tolerance: +/-1%
footprint WRIS-RSKS_0603_Reflow
footprint WRIS-RSKS_0603_Wave
pins: 1, 2

## 560112116007
designator R?, comment 6.8kΩ
WRIS-RSKS Thick Film Resistor, size 0603, 6.8kΩ, +/-1%, 100mW; Manufacturer Part Number: 560112116007; Manufacturer: Wurth Elektronik; Case/Size Code: 0603; Limiting Element Voltage: 75V; Temperature Coefficient of Resistance Min: -100ppm/°C; Temperature Coefficient of Resistance Max: 100ppm/°C; Category: Thick Film Resistors; Match Code: WRIS-RSKS; ComponentLink1Description: Website Link; ComponentLink1URL: https://www.we-online.com/redexpert/article/560112116007?ad; ComponentLink2Description: Datasheet Link; ComponentLink2URL: https://www.we-online.com/redexpert/spec/560112116007?ad; Mount: Surface Mount; Min Operating Temperature: -55°C; Max Operating Temperature: 155°C; Packaging: Tape and Reel; Length: 1.6mm; Width: 0.8mm; Height: 0.45mm; Rated Power: 100mW; Resistance: 6.8kΩ; Resistance Tolerance: +/-1%
footprint WRIS-RSKS_0603_Reflow
footprint WRIS-RSKS_0603_Wave
pins: 1, 2

## 560112116008
designator R?, comment 100Ω
WRIS-RSKS Thick Film Resistor, size 0603, 100Ω, +/-5%, 100mW; Manufacturer Part Number: 560112116008; Manufacturer: Wurth Elektronik; Case/Size Code: 0603; Limiting Element Voltage: 75V; Temperature Coefficient of Resistance Min: -100ppm/°C; Temperature Coefficient of Resistance Max: 100ppm/°C; Category: Thick Film Resistors; Match Code: WRIS-RSKS; ComponentLink1Description: Website Link; ComponentLink1URL: https://www.we-online.com/redexpert/article/560112116008?ad; ComponentLink2Description: Datasheet Link; ComponentLink2URL: https://www.we-online.com/redexpert/spec/560112116008?ad; Mount: Surface Mount; Min Operating Temperature: -55°C; Max Operating Temperature: 155°C; Packaging: Tape and Reel; Length: 1.6mm; Width: 0.8mm; Height: 0.45mm; Rated Power: 100mW; Resistance: 100Ω; Resistance Tolerance: +/-5%
footprint WRIS-RSKS_0603_Reflow
footprint WRIS-RSKS_0603_Wave
pins: 1, 2

## 560112116009
designator R?, comment 100Ω
WRIS-RSKS Thick Film Resistor, size 0603, 100Ω, +/-1%, 100mW; Manufacturer Part Number: 560112116009; Manufacturer: Wurth Elektronik; Case/Size Code: 0603; Limiting Element Voltage: 75V; Temperature Coefficient of Resistance Min: -100ppm/°C; Temperature Coefficient of Resistance Max: 100ppm/°C; Category: Thick Film Resistors; Match Code: WRIS-RSKS; ComponentLink1Description: Website Link; ComponentLink1URL: https://www.we-online.com/redexpert/article/560112116009?ad; ComponentLink2Description: Datasheet Link; ComponentLink2URL: https://www.we-online.com/redexpert/spec/560112116009?ad; Mount: Surface Mount; Min Operating Temperature: -55°C; Max Operating Temperature: 155°C; Packaging: Tape and Reel; Length: 1.6mm; Width: 0.8mm; Height: 0.45mm; Rated Power: 100mW; Resistance: 100Ω; Resistance Tolerance: +/-1%
footprint WRIS-RSKS_0603_Reflow
footprint WRIS-RSKS_0603_Wave
pins: 1, 2